# EAGLE library part 24AA256UID (library IC & Transistor)
24AA256UID 256K I2C Serial EEPROM with EUI-48™, EUI-64™ and Unique 32-Bit Serial Number Created by: Wai Weng
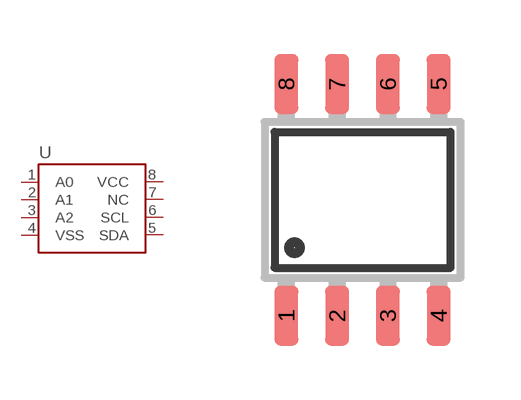
[diagram p87: symbol with the pads of SOIC-08N; footprint SOIC-08N]

Designator prefix U

## 24AA256UID (DESC: S 24AA256UID UID I2C EEPROM SO8; MF: Microchip Technology; MPN: 24AA256UIDT-I/SN)  [SOIC-08N]
1  A0
2  A1
3  A2
4  VSS
5  SDA
6  SCL
7  NC
8  VCC

## Footprint SOIC-08N (pad centres in mm)
Small Outline Integrated Circuit (SOIC) Narrow (JEDEC) SOIC Package Size: 4.9mm x 3.9mm Lead Pitch: 1.27mm
smd 0.6 x 1.5: 1 -1.905,-2.9; 2 -0.635,-2.9; 3 0.635,-2.9; 4 1.905,-2.9; 5 1.905,2.9; 6 0.635,2.9; 7 -0.635,2.9; 8 -1.905,2.9